# EAGLE library part TMP275AIDR (library Sensor)
SENSOR DIGITAL -40C-125C 8SOIC Manufacturer's datasheet <http://www.ti.com/lit/ds/symlink/tmp275.pdf>
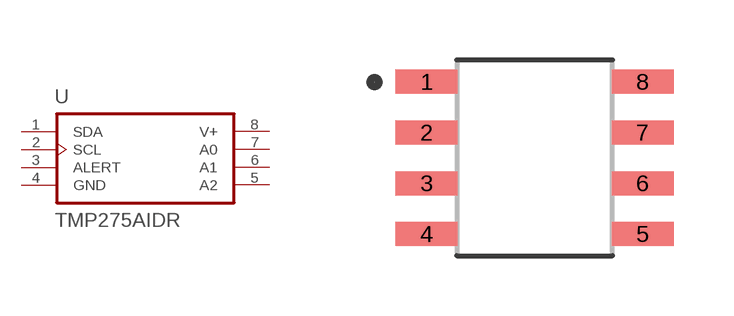
[diagram p15: symbol with the pads of TMP275AIDR; footprint TMP275AIDR]

Designator prefix U

## TMP275AIDR (CREATED_BY: PCBLayout.com; DIGIKEY_PART_NUMBER: 296-39296-2-ND; MANUFACTURER: Texas Instruments; MPN: TMP275AIDR; PACKAGE: 8-SOIC)  [TMP275AIDR]
1  SDA
2  SCL  in
3  ALERT  out
4  GND  pwr
5  A2  in
6  A1  in
7  A0  in
8  V+  in

## Footprint TMP275AIDR (pad centres in mm)
smd 1.55 x 0.6: 1 -2.7,1.905; 2 -2.7,0.635; 3 -2.7,-0.635; 4 -2.7,-1.905; 5 2.7,-1.905; 6 2.7,-0.635; 7 2.7,0.635; 8 2.7,1.905